# Altium schematic symbol library RES_4-ARRAY.SchLib: 1 symbol
Pins are listed as number, name and electrical type; pins without a type are passive.

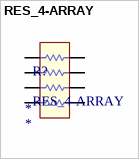
[diagram p0: symbol RES_4-ARRAY]

## RES_4-ARRAY
designator R?
Value: *; Tolerance: *
pins: 1, 2, 3, 4, 5, 6, 7, 8